# Altium schematic symbol library Screw.SchLib: 9 symbols
Pins are listed as number, name and electrical type; pins without a type are passive.

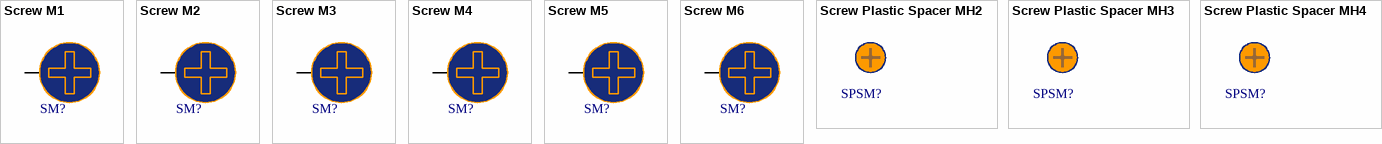
[diagram p0: symbols Screw M1 to Screw Plastic Spacer MH4]

## Screw M1
designator SM?  (no BOM)
Screw, hole diameter 1.8mm, PanHead 3.2mm & PanHead 2.5mm; DatasheetVersion: 2022
pins: 1

## Screw M2
designator SM?  (no BOM)
Screw, hole diameter 2.2mm & 2.2mm, PanHead 3.2mm & 4mm & 5mm & 6mm; DatasheetVersion: 2022
pins: 1

## Screw M3
designator SM?  (no BOM)
Screw, hole diameter 3.2mm & 3.7mm, PanHead 5mm & 5.6mm & 6mm & 7mm; DatasheetVersion: 2022
pins: 1

## Screw M4
designator SM?  (no BOM)
Screw, hole diameter 4.2mm, PanHead 8mm & 9mm & 6.4mm; DatasheetVersion: 2022
pins: 1

## Screw M5
designator SM?  (no BOM)
Screw, hole diameter 5.2mm, PanHead 8mm & 10mm; DatasheetVersion: 2022
pins: 1

## Screw M6
designator SM?  (no BOM)
Screw, hole diameter 6.2mm, PanHead 9.6mm & 12mm; DatasheetVersion: 2022
pins: 1

## Screw Plastic Spacer MH2
designator SPSM?  (no BOM)
Screw Plastic Spacer, hole diameter 2mm,; DatasheetVersion: 2022

## Screw Plastic Spacer MH3
designator SPSM?  (no BOM)
Screw Plastic Spacer, hole diameter 3mm,; DatasheetVersion: 2022

## Screw Plastic Spacer MH4
designator SPSM?  (no BOM)
Screw Plastic Spacer, hole diameter 4mm,; DatasheetVersion: 2022